# EAGLE library part RTCC (library ZMPLC)
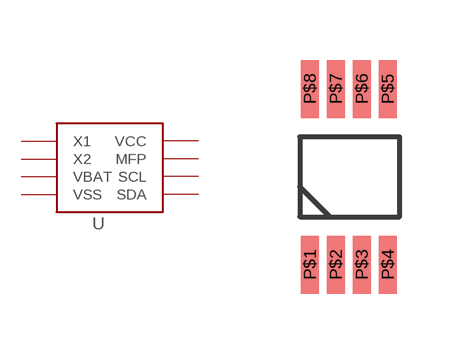
[diagram p17: symbol with the pads of MSOP8; footprint MSOP8]

Designator prefix -

## RTCC  [MSOP8]
P$1  X1  pas
P$2  X2  pas
P$3  VBAT  pwr
P$4  VSS  pwr
P$5  SDA
P$6  SCL
P$7  MFP
P$8  VCC  pwr

## Footprint MSOP8 (pad centres in mm)
smd 0.45 x 1.45: P$1 0,-2.2; P$2 0.65,-2.2; P$3 1.3,-2.2; P$4 1.95,-2.2; P$5 1.95,2.2; P$6 1.3,2.2; P$7 0.65,2.2; P$8 0,2.2